# Altium footprint library TAOGLAS_EMPCB.SMAFSTJ.B.HT_EMPCB.SMAFSTJ.B.HT.PcbLib: 1 footprints
Each footprint in its own frame and in the unit in brackets; x right, y up, seen from the top. Pads: shape width x height; smd on the part's side, far side on the other; paste and mask are expansions set on the pad; w line width, h text height; cw(c..) or ccw(c..) is an arc to the next point about the centre after c.
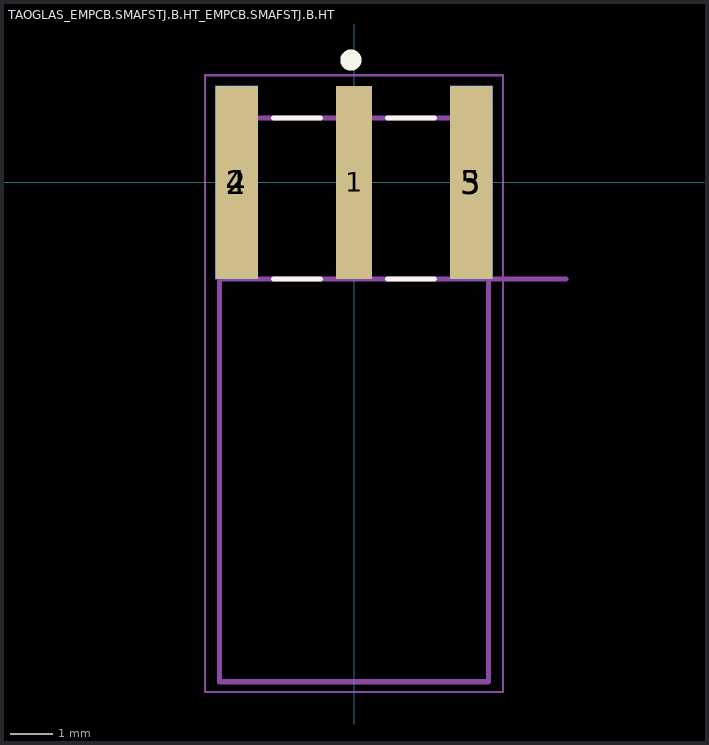
[diagram p0: the footprint, top view; thin cyan lines are the x and y axes]

## TAOGLAS_EMPCB.SMAFSTJ.B.HT_EMPCB.SMAFSTJ.B.HT [mm]
pads (5):
  rect 0.85x4.56 smd: 1(0,0)
  rect 1x4.56 smd: 2(-2.77,0) 3(2.77,0)
  rect 1x4.56 smd far side: 4(-2.77,0) 5(2.77,0)
Top Overlay:
  circle w0.3: c-0.073,2.888 r0.1
  lines w0.127: -1.9,-2.28 -0.8,-2.28 ; -1.9,1.52 -0.8,1.52 ; 0.8,-2.28 1.9,-2.28 ; 0.8,1.52 1.9,1.52
Mechanical 1:
  lines w0.05: -3.52,-12.03 -3.52,2.53 ; -3.52,-12.03 3.52,-12.03 ; -3.52,-12.03 -3.52,2.53 ; -3.52,-12.03 3.52,-12.03 ; -3.52,2.53 3.52,2.53 ; -3.52,2.53 3.52,2.53 ; 3.52,-12.03 3.52,2.53 ; 3.52,-12.03 3.52,2.53
  lines w0.127: -3.175,-11.78 3.175,-11.78 ; -3.175,-11.78 -3.175,-2.28 ; -3.175,-11.78 3.175,-11.78 ; -3.175,-11.78 -3.175,-2.28 ; -3.175,-2.28 -3.175,1.52 ; -3.175,-2.28 -3.175,1.52 ; -3.175,-2.28 5,-2.28 -3.175,-2.28 ; -3.175,1.52 3.175,1.52 ; -3.175,1.52 3.175,1.52 ; 3.175,-11.78 3.175,1.52 ; 3.175,-11.78 3.175,1.52
  text "PCB EDGE" at 3.556,-3.683 h0.91
Mechanical 16:
  lines w0.05: -3.52,-12.03 3.52,-12.03 3.52,2.53 -3.52,2.53 -3.52,-12.03
3D body "SMA CONNECTOR - EMPCB.SMAFSTJ.B.HT.SLDPRT": height 3.7, standoff -2.65, extent -3.175,-11.984 3.175,1.316